# EAGLE library part JETSON_CARRIER (library auv)
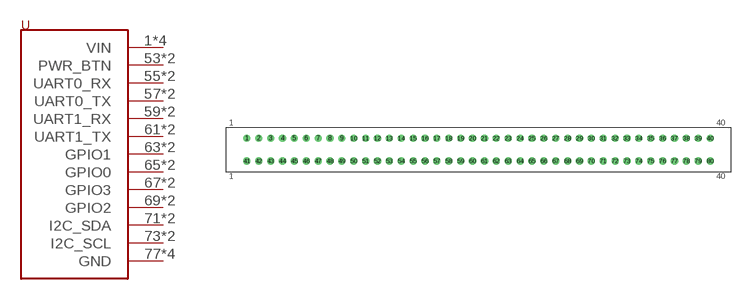
[diagram p9: symbol with the pads of TE-2-5530843-0; footprint TE-2-5530843-0]

Designator prefix -

## JETSON_CARRIER  [TE-2-5530843-0]
1  VIN
2  VIN
3  VIN
4  VIN
53  PWR_BTN
54  PWR_BTN
55  UART0_RX
56  UART0_RX
57  UART0_TX
58  UART0_TX
59  UART1_RX
60  UART1_RX
61  UART1_TX
62  UART1_TX
63  GPIO1
64  GPIO1
65  GPIO0
66  GPIO0
67  GPIO3
68  GPIO3
69  GPIO2
70  GPIO2
71  I2C_SDA
72  I2C_SDA
73  I2C_SCL
74  I2C_SCL
77  GND
78  GND
79  GND
80  GND

## Footprint TE-2-5530843-0 (pad centres in mm)
drill 1.016: 1 -49.53,2.426; 2 -46.99,2.426; 3 -44.45,2.426; 4 -41.91,2.426; 5 -39.37,2.426; 6 -36.83,2.426; 7 -34.29,2.426; 8 -31.75,2.426; 9 -29.21,2.426; 10 -26.67,2.426; 11 -24.13,2.426; 12 -21.59,2.426; 13 -19.05,2.426; 14 -16.51,2.426; 15 -13.97,2.426; 16 -11.43,2.426; 17 -8.89,2.426; 18 -6.35,2.426; 19 -3.81,2.426; 20 -1.27,2.426; 21 1.27,2.426; 22 3.81,2.426; 23 6.35,2.426; 24 8.89,2.426; 25 11.43,2.426; 26 13.97,2.426; 27 16.51,2.426; 28 19.05,2.426; 29 21.59,2.426; 30 24.13,2.426; 31 26.67,2.426; 32 29.21,2.426; 33 31.75,2.426; 34 34.29,2.426; 35 36.83,2.426; 36 39.37,2.426; 37 41.91,2.426; 38 44.45,2.426; 39 46.99,2.426; 40 49.53,2.426; 41 -49.53,-2.426; 42 -46.99,-2.426; 43 -44.45,-2.426; 44 -41.91,-2.426; 45 -39.37,-2.426; 46 -36.83,-2.426; 47 -34.29,-2.426; 48 -31.75,-2.426; 49 -29.21,-2.426; 50 -26.67,-2.426; 51 -24.13,-2.426; 52 -21.59,-2.426; 53 -19.05,-2.426; 54 -16.51,-2.426; 55 -13.97,-2.426; 56 -11.43,-2.426; 57 -8.89,-2.426; 58 -6.35,-2.426; 59 -3.81,-2.426; 60 -1.27,-2.426; 61 1.27,-2.426; 62 3.81,-2.426; 63 6.35,-2.426; 64 8.89,-2.426; 65 11.43,-2.426; 66 13.97,-2.426; 67 16.51,-2.426; 68 19.05,-2.426; 69 21.59,-2.426; 70 24.13,-2.426; 71 26.67,-2.426; 72 29.21,-2.426; 73 31.75,-2.426; 74 34.29,-2.426; 75 36.83,-2.426; 76 39.37,-2.426; 77 41.91,-2.426; 78 44.45,-2.426; 79 46.99,-2.426; 80 49.53,-2.426